# Altium integrated library Kingfont Secure Digital Card.IntLib: 2 symbols
Pins are listed as number, name and electrical type; pins without a type are passive.

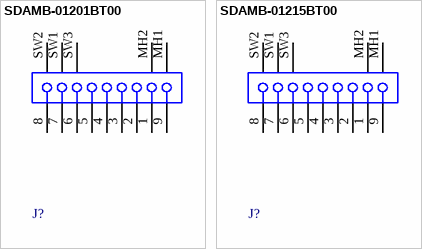
[diagram p0: symbols SDAMB-01201BT00 to SDAMB-01215BT00]

## SDAMB-01201BT00
designator J?
Secure Digital Card Connector, Type A without Cover; Surface Mount; 9-Position, 1u" Au Plating; PCB_Layout: Complies with manufacturer's recommendation.; Note: SD and MMC full compatible; Published: 21-Sep-2007; DatasheetVersion: rev.I, 2006; PackageVersion: 2006; PackageReference: SDAMB-012; Publisher: Altium Limited; PackageDescription: SD Card without Cover, SM, 9 Position, Right Angle, Body 23.3 x 27.4 x 3.4 mm (LxWxH); ComponentLink1Description: Manufacturer Link; ComponentLink1URL: http://www.kingfont.com/; ComponentLink2Description: Datasheet; ComponentLink2URL: http://php2.twinner.com.tw/files/kingfont/SDAMB-012XXBXXX-1C.pdf
footprint SDAMB-012 (Connector; SD Card Type A, SM, 9 Position, Right Angle, Pitch 2.5 mm, Body 23.3 x 27.4 x 3.4 mm (LxWxH))
signal-integrity model Secure Digital
pins: 1 "CD/DAT3", 2 "CMD/D1", 3 "VSS1", 4 "VDD", 5 "CLK/SCLK", 6 "VSS2", 7 "DAT0", 8 "DAT1", 9 "DAT3", MH1 "Tab", MH2 "Tab", SW1, SW2 "Write Protect", SW3 "Card Detect Indication"

## SDAMB-01215BT00
designator J?
Secure Digital Card Connector, Type A without Cover; Surface Mount; 9-Position, 15u" Au Plating; PCB_Layout: Complies with manufacturer's recommendation.; Note: SD and MMC full compatible; Published: 21-Sep-2007; DatasheetVersion: rev.I, 2006; PackageVersion: 2006; PackageReference: SDAMB-012; Publisher: Altium Limited; PackageDescription: SD Card without Cover, SM, 9 Position, Right Angle, Body 23.3 x 27.4 x 3.4 mm (LxWxH); ComponentLink1Description: Manufacturer Link; ComponentLink1URL: http://www.kingfont.com/; ComponentLink2Description: Datasheet; ComponentLink2URL: http://php2.twinner.com.tw/files/kingfont/SDAMB-012XXBXXX-1C.pdf
footprint SDAMB-012 (Connector; SD Card Type A, SM, 9 Position, Right Angle, Pitch 2.5 mm, Body 23.3 x 27.4 x 3.4 mm (LxWxH))
signal-integrity model Secure Digital
pins: 1 "CD/DAT3", 2 "CMD/D1", 3 "VSS1", 4 "VDD", 5 "CLK/SCLK", 6 "VSS2", 7 "DAT0", 8 "DAT1", 9 "DAT3", MH1 "Tab", MH2 "Tab", SW1, SW2 "Write Protect", SW3 "Card Detect Indication"